# EAGLE library part ICM7211AMIPL (library Intersil_By_element14_Batch_1)
4-Digit, LCD Display Driver
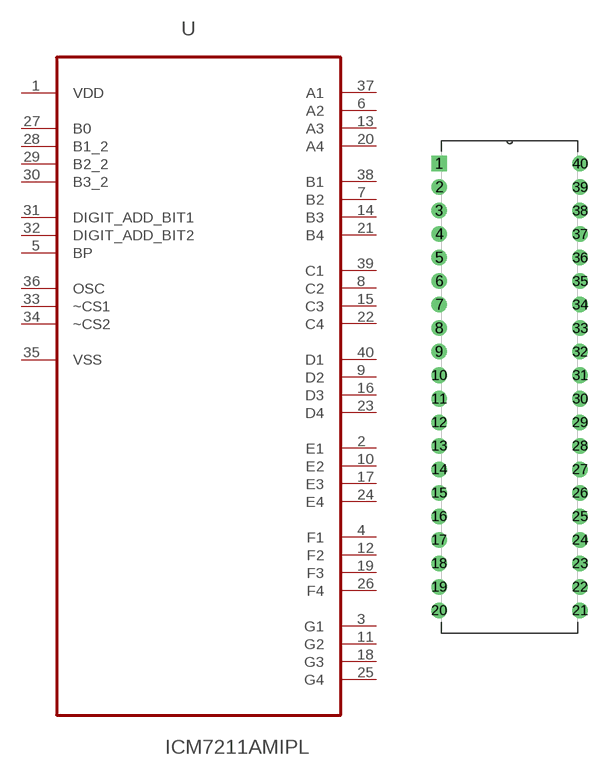
[diagram p202: symbol with the pads of DIP254P1524X635-40; footprint DIP254P1524X635-40]

Designator prefix U

## ICM7211AMIPL (MPN: ICM7211AMIPL; OC_FARNELL: 1703259; OC_NEWARK: 06F7531; PACKAGE: DIP-40; SUPPLIER: INTERSIL)  [DIP254P1524X635-40]
1  VDD  pwr
2  E1  out
3  G1  out
4  F1  out
5  BP  out
6  A2  out
7  B2  out
8  C2  out
9  D2  out
10  E2  out
11  G2  out
12  F2  out
13  A3  out
14  B3  out
15  C3  out
16  D3  out
17  E3  out
18  G3  out
19  F3  out
20  A4  out
21  B4  pas
22  C4  out
23  D4  out
24  E4  out
25  G4  out
26  F4  out
27  B0  in
28  B1_2  in
29  B2_2  in
30  B3_2  in
31  DIGIT_ADD_BIT1  in
32  DIGIT_ADD_BIT2  in
33  ~CS1  in
34  ~CS2  in
35  VSS  pwr
36  OSC  in
37  A1  out
38  B1  out
39  C1  out
40  D1  out

## Footprint DIP254P1524X635-40 (pad centres in mm)
drill 1.118 square: 1 -15.24,48.26
drill 1.118: 2 -15.24,45.72; 3 -15.24,43.18; 4 -15.24,40.64; 5 -15.24,38.1; 6 -15.24,35.56; 7 -15.24,33.02; 8 -15.24,30.48; 9 -15.24,27.94; 10 -15.24,25.4; 11 -15.24,22.86; 12 -15.24,20.32; 13 -15.24,17.78; 14 -15.24,15.24; 15 -15.24,12.7; 16 -15.24,10.16; 17 -15.24,7.62; 18 -15.24,5.08; 19 -15.24,2.54; 20 -15.24,0; 21 0,0; 22 0,2.54; 23 0,5.08; 24 0,7.62; 25 0,10.16; 26 0,12.7; 27 0,15.24; 28 0,17.78; 29 0,20.32; 30 0,22.86; 31 0,25.4; 32 0,27.94; 33 0,30.48; 34 0,33.02; 35 0,35.56; 36 0,38.1; 37 0,40.64; 38 0,43.18; 39 0,45.72; 40 0,48.26